# Altium integrated library Analog Devices Data Converters Analog-to-Digital Converters.IntLib: 2400 symbols (part 172 of 338)
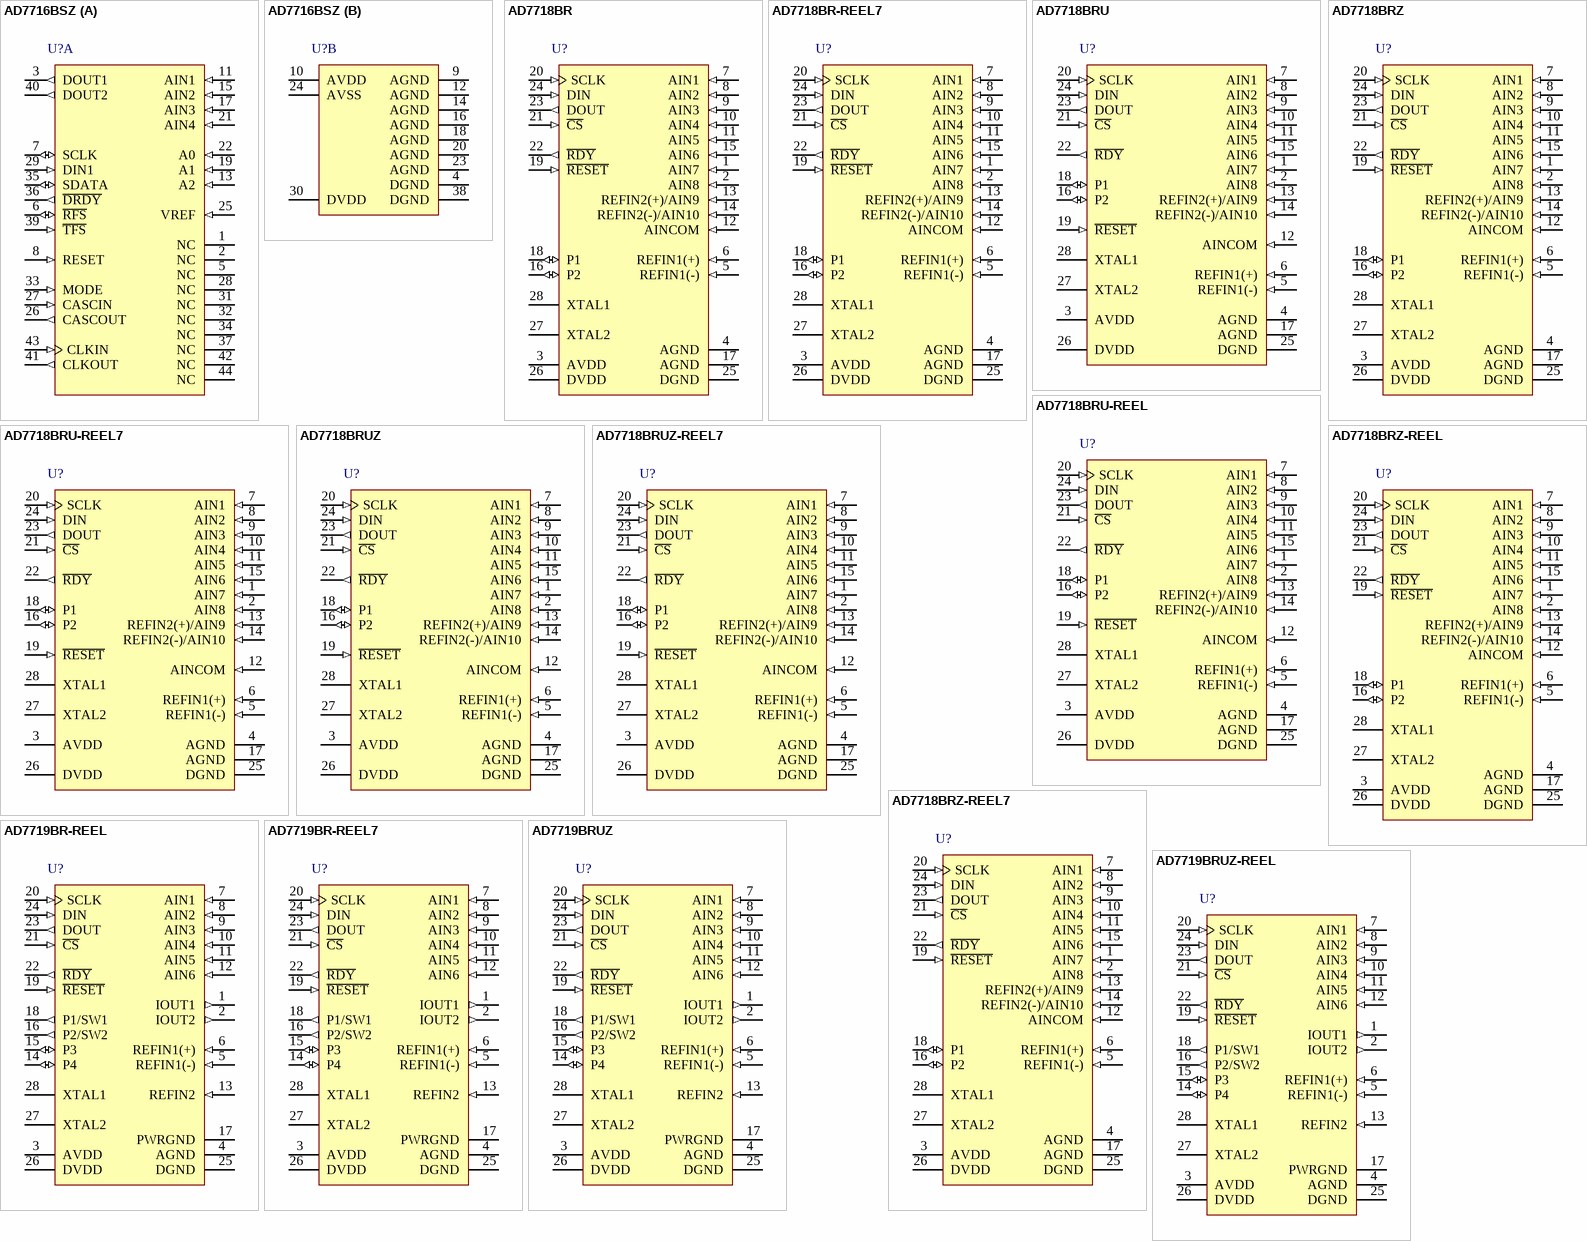
[diagram p351: symbols AD7716BSZ to AD7719BRUZ-REEL]

## AD7718BRZ-REEL7
designator U?
10 Channel 24-Bit Low Power Sigma-Delta Analog-to-Digital Converter with Serial, SPI Interface, 1.365KSPS, -40 to +85 degC, RW-28, Pb-Free, Reel; Part Number: AD7718; Manufacturer: Analog Devices; Resolution (Bits): 24; Channels: 10; Throughput Rate (SPS): 1.365K; Interface: Ser, SPI; DatasheetVersion: Rev.0; PackageVersion: 060706-A; PackageReference: RW-28; PackageDescription: 28-Lead Standard Small Outline Package [SOIC_W]; RoHS: Y; Packing: Reel; Mounting Technology: Surface Mount; Code_JEDEC: MS-013-AE; ComponentLink1Description: Manufacturer URL; ComponentLink1URL: http://www.analog.com/en/index.html; ComponentLink2Description: Datasheet; ComponentLink2URL: http://www.analog.com/static/imported-files/data_sheets/AD7708_7718.pdf; ComponentLink3Description: Package Specification; ComponentLink3URL: http://www.analog.com/static/imported-files/packages/35833120341221RW_28.pdf; ComponentLink4Description: Product URL; ComponentLink4URL: http://www.analog.com/en/analog-to-digital-converters/ad-converters/ad7718/products/product.html
footprint RW-28_N (SOIC, 28-Leads, Body 17.9x7.5mm, Pitch 1.27mm, IPC Medium Density)
footprint RW-28_L (SOIC, 28-Leads, Body 17.9x7.5mm, Pitch 1.27mm, IPC High Density)
footprint RW-28_M (SOIC, 28-Leads, Body 17.9x7.5mm, Pitch 1.27mm, IPC Low Density)
pins: 1 AIN7 (in) "Analog Input Channel 7. Programmable-gain analog input that can be used as a pseudodifferential input when used with AINCOM, or as the positive input of a fully-differential input pair when used with AIN8. (See ADC Control (See Datasheet)", 2 AIN8 (in) "Analog Input Channel 8. Programmable-gain analog input that can be used as a pseudodifferential input when used with AINCOM, or as the negative input of a fully-differential input pair when used with AIN7. (See ADC Control (See Datasheet)", 3 AVDD (power) "Analog Supply Voltage", 4 AGND (power) "Analog Ground", 5 REFIN1(-) (in) "Negative Reference Input. This reference input can lie anywhere between AGND and AVDD - 1 V.", 6 REFIN1(+) (in) "Positive reference input. REFIN(+) can lie anywhere between AVDD and AGND. The nominal reference voltage [REFIN(+)-REFIN(-)] is 2.5 V but the part is functional with a reference range from 1 V to AVDD.", 7 AIN1 (in) "Analog Input Channel 1. Programmable-gain analog input that can be used as a pseudodifferential input when used with AINCOM, or as the positive input of a fully-differential input pair when used with AIN2. (See ADC Control (See Datasheet)", 8 AIN2 (in) "Analog Input Channel 2. Programmable-gain analog input that can be used as a pseudodifferential input when used with AINCOM, or as the negative input of a fully-differential input pair when used with AIN1. (See ADC Control (See Datasheet)", 9 AIN3 (in) "Analog Input Channel 3. Programmable-gain analog input that can be used as a pseudodifferential input when used with AINCOM, or as the positive input of a fully-differential input pair when used with AIN4. (See ADC Control (See Datasheet)", 10 AIN4 (in) "Analog Input Channel 4. Programmable-gain analog input that can be used as a pseudodifferential input when used with AINCOM, or as the negative input of a fully-differential input pair when used with AIN3. (See ADC Control (See Datasheet)", 11 AIN5 (in) "Analog Input Channel 5. Programmable-gain analog input that can be used as a pseudodifferential input when used with AINCOM, or as the positive input of a fully-differential input pair when used with AIN6. (See ADC Control (See Datasheet)", 12 AINCOM (in) "All analog inputs are referenced to this input when configured in pseudo-differential input mode.", 13 REFIN2(+)/AIN9 (in) "Positive reference input/analog input. This input can be configured as a reference input with the same characteristics as REFIN1(+) or as an additional analog input. When configured as an analog input this pin provides a (See Datasheet)", 14 REFIN2(-)/AIN10 (in) "Negative reference input/analog input. This pin can be configured as a reference or analog input. When configured as a reference input it provides the negative reference input for REFIN2. When configured as an analog input (See Datasheet)", 15 AIN6 (in) "Analog Input Channel 6. Programmable-gain analog input that can be used as a pseudodifferential input when used with AINCOM, or as the negative input of a fully-differential input pair when used with AIN5. (See ADC Control (See Datasheet)", 16 P2 (io) "P2 can act as a general-purpose Input/Output bit referenced between AVDD and AGND. There is a weak pull-up to AVDD internally on this pin.", 17 AGND (power) "It is recommended that this pin be tied directly to AGND.", 18 P1 (io) "P1 can act as a general-purpose Input/Output bit referenced between AVDD and AGND. There is a weak pull-up to AVDD internally on this pin.", 19 ~{RESET} (in) "Digital input used to reset the ADC to its power-on-reset status. This pin has a weak pull-up internally to DVDD.", 20 SCLK (in) "Serial clock input for data transfers to and from the ADC. The SCLK has a Schmitt-trigger input making an opto-isolated interface more robust. The serial clock can be continuous with all data transmitted in a continuous (See Datasheet)", 21 ~{CS} (in) "Chip Select Input. This is an active low logic input used to select the AD7708/AD7718. C\S\ can be used to select the AD7708/AD7718 in systems with more than one device on the serial bus or as a frame synchronization signal (See Datasheet)", 22 ~{RDY} (out) "R\D\Y\ is a logic low status output from the AD7708/AD7718. R\D\Y\ is low when valid data exists in the data register for the selected channel. This output returns high on completion of a read operation from the data (See Datasheet)", 23 DOUT (out) "Serial data output with serial data being read from the output shift register of the ADC. The output shift register can contain data from any of the on-chip data, calibration or control registers.", 24 DIN (in) "Serial Data Input with serial data being written to the input shift register on the AD7708/AD7718 Data in this shift register is transferred to the calibration or control registers within the ADC depending on the selection (See Datasheet)", 25 DGND (power) "Ground Reference Point for the Digital Circuitry.", 26 DVDD (power) "Digital Supply Voltage, 3 V or 5 V Nominal.", 27 XTAL2 "Output from the 32 kHz Crystal Oscillator or Resonator Inverter.", 28 XTAL1 "Input to the 32 kHz Crystal Oscillator or Resonator Inverter."

## AD7719BR-REEL
designator U?
6 Channel 24-Bit Low Power Sigma-Delta Analog-to-Digital Converter with Serial, SPI Interface, Factory-Calibrated, 105SPS, -40 to +85 degC, RW-28, Reel; Part Number: AD7719; Manufacturer: Analog Devices; Resolution (Bits): 24; Channels: 6; Throughput Rate (SPS): 105; Interface: Ser, SPI; DatasheetVersion: Rev.A; PackageVersion: 060706-A; PackageReference: RW-28; PackageDescription: 28-Lead Standard Small Outline Package [SOIC_W]; RoHS: N; Packing: Reel; Mounting Technology: Surface Mount; Code_JEDEC: MS-013-AE; ComponentLink1Description: Manufacturer URL; ComponentLink1URL: http://www.analog.com/en/index.html; ComponentLink2Description: Datasheet; ComponentLink2URL: http://www.analog.com/static/imported-files/data_sheets/AD7719.pdf; ComponentLink3Description: Package Specification; ComponentLink3URL: http://www.analog.com/static/imported-files/packages/35833120341221RW_28.pdf; ComponentLink4Description: Product URL; ComponentLink4URL: http://www.analog.com/en/analog-to-digital-converters/ad-converters/ad7719/products/product.html
footprint RW-28_N (SOIC, 28-Leads, Body 17.9x7.5mm, Pitch 1.27mm, IPC Medium Density)
footprint RW-28_L (SOIC, 28-Leads, Body 17.9x7.5mm, Pitch 1.27mm, IPC High Density)
footprint RW-28_M (SOIC, 28-Leads, Body 17.9x7.5mm, Pitch 1.27mm, IPC Low Density)
pins: 1 IOUT1 (out) "Output for Internal 200 uA Excitation Current Source. Current source IEXC1 and/or IEXC2 can be switched to this output.", 2 IOUT2 (out) "Output for Internal 200 uA Excitation Current Source. Current source IEXC1 and/or IEXC2 can be switched to this output.", 3 AVDD (power) "Analog Supply Voltage.", 4 AGND (power) "Analog Ground.", 5 REFIN1(-) (in) "Negative Reference Input for Main ADC Channel. This reference input can lie anywhere between AGND and AVDD - 1 V.", 6 REFIN1(+) (in) "Positive Reference Input for Main ADC Channel. REFIN1(+) can lie anywhere between AVDD and AGND + 1 V. The nominal reference voltage (REFIN1(+) - REFIN1(-)) is 2.5 V, but the part is functional with a reference range from 1 (See Datasheet)", 7 AIN1 (in) "Analog Input. AIN1 is dedicated to the main channel.", 8 AIN2 (in) "Analog Input. AIN2 is dedicated to the main channel.", 9 AIN3 (in) "Analog Input. AIN3 can be multiplexed to either the main or auxiliary channel.", 10 AIN4 (in) "Analog Input. AIN4 can be multiplexed to either the main or auxiliary channel.", 11 AIN5 (in) "Analog Input. AIN5 is dedicated to the auxiliary channel and is referenced to AIN6 or AGND.", 12 AIN6 (in) "Analog Input. AIN6 is dedicated to the auxiliary channel. It forms a differential input pair with AIN5 in fully differential input mode or is referenced to AGND in pseudodifferential mode.", 13 REFIN2 (in) "Single-Ended Reference Input for Auxiliary Channel. The nominal input reference is 2.5 V. The auxiliary channel will function with an input reference range from 1 V to AVDD.", 14 P4 (io) "General-Purpose I/O Bit. The input and output voltage levels are referenced to AVDD and AGND.", 15 P3 (io) "General-Purpose I/O Bit. The input and output voltage levels are referenced to AVDD and AGND.", 16 P2/SW2 (out) "Dual-Purpose Pin. It can act as a general-purpose output (P2) bit referenced between AVDD and AGND or as a low-side power switch (SW2) to PWRGND.", 17 PWRGND (power) "Ground Point for the Low-Side Power Switches SW2 and SW1. PWRGND must be tied to AGND.", 18 P1/SW1 (out) "Dual-Purpose Pin. It can act as a general-purpose output (P1) bit referenced between AVDD and AGND or as a low-side power switch (SW1) to PWRGND.", 19 ~{RESET} (in) "Digital Input Used to Reset the ADC to Its Power-On Reset Status. This pin has a weak pull-up internally to DVDD.", 20 SCLK (in) "Serial Clock Input for Data Transfers to and from the ADC. The SCLK has a Schmitt-triggered input, making the interface suitable for opto-isolated applications. The serial clock can be continuous with all data transmitted in (See Datasheet)", 21 ~{CS} (in) "Chip Select Input. This is an active low logic input used to select the AD7719. C\S\ can be used to select the AD7719 in systems with more than one device on the serial bus or as a frame synchronization signal in (See Datasheet)", 22 ~{RDY} (out) "R\D\Y\ is a logic low status output from the AD7719. R\D\Y\ is low if either the main ADC or auxiliary ADC channel has valid data in its data register. This output returns high on completion of a read operation from the data (See Datasheet)", 23 DOUT (out) "Serial Data Output Accessing the Output Shift Register of the AD7719. The output shift register can contain data from any of the on-chip data, calibration, or control registers.", 24 DIN (in) "Serial Data Input Accessing the Input Shift Register on the AD7719. Data in this shift register is transferred to the calibration or control registers within the ADC depending on the selection bits of the Communications (See Datasheet)", 25 DGND (power) "Ground Reference Point for the Digital Circuitry.", 26 DVDD (power) "Digital Supply Voltage, 3 V or 5 V Nominal.", 27 XTAL2 "Output from the 32 kHz Crystal Oscillator Inverter.", 28 XTAL1 "Input to the 32 kHz Crystal Oscillator Inverter."